# EAGLE library part SP3495EEN-L (library Sipex_By_element14_Batch_1)
HIGH SPEED +3.3V RS-485/RS-422 TRANSCEIVERS
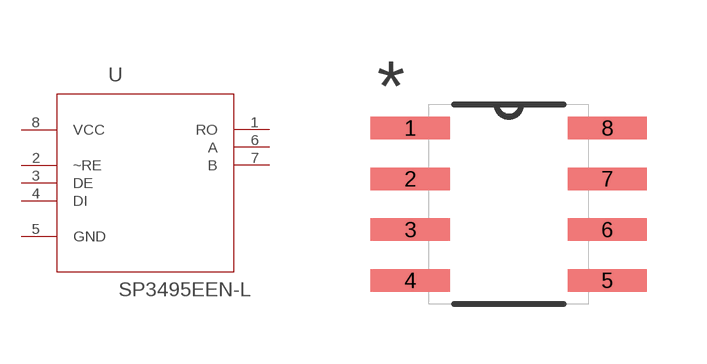
[diagram p3: symbol with the pads of SOIC127P600X175-8N; footprint SOIC127P600X175-8N]

Designator prefix U

## SP3495EEN-L (MPN: SP3495EEN-L; OC_FARNELL: 1829398; OC_NEWARK: 60R6689; PACKAGE: SOIC-8; SUPPLIER: Sipex Corporation)  [SOIC127P600X175-8N]
1  RO  out
2  ~RE  in
3  DE  in
4  DI  in
5  GND  pas
6  A  out
7  B  out
8  VCC  pwr

## Footprint SOIC127P600X175-8N (pad centres in mm)
smd 1.981 x 0.559: 1 -2.464,1.905; 2 -2.464,0.635; 3 -2.464,-0.635; 4 -2.464,-1.905; 5 2.464,-1.905; 6 2.464,-0.635; 7 2.464,0.635; 8 2.464,1.905